# Altium footprint library 语音台灯.PcbLib: 3 footprints
Each footprint in its own frame and in the unit in brackets; x right, y up, seen from the top. Pads: shape width x height; smd on the part's side, far side on the other; paste and mask are expansions set on the pad; w line width, h text height; cw(c..) or ccw(c..) is an arc to the next point about the centre after c.
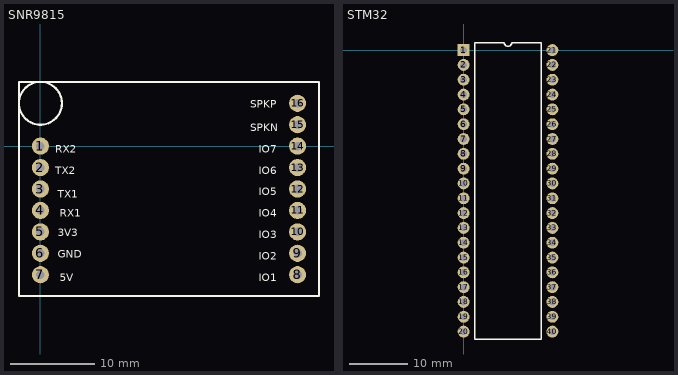
[diagram p0: the footprints below, top view; thin cyan lines are the x and y axes]

## SNR9815 [mil] "智呐捷语音识别模块9815"
pads (16):
  round 80 hole 40: 1(0,0) 2(0,-100) 3(0,-200) 4(0,-300) 5(0,-400) 6(0,-500) 7(0,-600) 8(1200,-600) 9(1200,-500) 10(1200,-400) 11(1200,-300) 12(1200,-200) 13(1200,-100) 14(1200,0) 15(1200,100) 16(1200,200)
Top Overlay:
  circle w10: c0,200 r100
  lines w10: -100,-700 -100,300 1300,300 1300,-700 -100,-700
  text "TX1" at 80,-240 h35
  text "RX1" at 90,-330 h35
  text "GND" at 80,-520 h35
  text "5V" at 90,-630 h35
  text "SPKP" at 980,180 h35
  text "SPKN" at 980,70 h35
  text "RX2" at 70,-30 h35
  text "TX2" at 70,-130 h35
  text "3V3" at 80,-420 h35
  text "IO1" at 1020,-630 h35
  text "IO2" at 1020,-530 h35
  text "IO3" at 1020,-430 h35
  text "IO4" at 1020,-330 h35
  text "IO5" at 1020,-230 h35
  text "IO6" at 1020,-130 h35
  text "IO7" at 1020,-30 h35

## STM32 [mil]
pads (40):
  rect 80x80 hole 45: 1(0,0)
  round 80 hole 45: 2(0,-100) 3(0,-200) 4(0,-300) 5(0,-400) 6(0,-500) 7(0,-600) 8(0,-700) 9(0,-800) 10(0,-900) 11(0,-1000) 12(0,-1100) 13(0,-1200) 14(0,-1300) 15(0,-1400) 16(0,-1500) 17(0,-1600) 18(0,-1700) 19(0,-1800) 20(0,-1900) 21(600,0) 22(600,-100) 23(600,-200) 24(600,-300) 25(600,-400) 26(600,-500) 27(600,-600) 28(600,-700) 29(600,-800) 30(600,-900) 31(600,-1000) 32(600,-1100) 33(600,-1200) 34(600,-1300) 35(600,-1400) 36(600,-1500) 37(600,-1600) 38(600,-1700) 39(600,-1800) 40(600,-1900)
Top Overlay:
  lines w10: 75,-1950 525,-1950 525,50 325,50 cw(c300,50) 275,50 75,50 75,-1950

## STM32F103C8T6 [mil]